# Altium schematic symbol library ISZ230N10NM6ATMA1.SchLib: 1 symbol
Pins are listed as number, name and electrical type; pins without a type are passive.

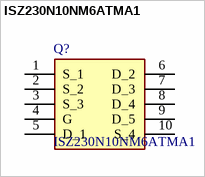
[diagram p0: symbol ISZ230N10NM6ATMA1]

## ISZ230N10NM6ATMA1
designator Q?
Power MOSFET, N Channel, 100 V, 31 A, 0.0196 ohm, TSDSON-FL, Surface Mount; Manufacturer_Name: Infineon; Geometry.Height: 1.1mm; Manufacturer_Part_Number: ISZ230N10NM6ATMA1; Mouser Part Number: 726-ISZ230N10NM6ATMA; Mouser Price/Stock: https://www.mouser.co.uk/ProductDetail/Infineon-Technologies/ISZ230N10NM6ATMA1?qs=QNEnbhJQKva40xihFpvF9Q%3D%3D; Arrow Part Number: *; Arrow Price/Stock: *; Datasheet Link: https://www.infineon.com/dgdl/Infineon-ISZ230N10NM6-DataSheet-v02_00-EN.pdf?fileId=8ac78c8c7bb971ed017bba7c28d202ac
footprint ISZ230N10NM6ATMA1
pins: 1 S_1, 2 S_2, 3 S_3, 4 G, 5 D_1, 6 D_2, 7 D_3, 8 D_4, 9 D_5, 10 S_4